# Altium schematic symbol library 155060BS75300.SchLib: 1 symbol
Pins are listed as number, name and electrical type; pins without a type are passive.

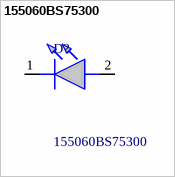
[diagram p0: symbol 155060BS75300]

## 155060BS75300
designator D?
Standard LEDs - SMD WL-SMSW Wtrclr SdVw Blue 3.2V 20mA 465nm; Manufacturer_Name: Wurth Elektronik; Geometry.Height: 1mm; Mouser Part Number: 710-155060BS75300; Mouser Price/Stock: https://www.mouser.co.uk/ProductDetail/Wurth-Elektronik/155060BS75300?qs=GedFDFLaBXFE8klTFAyuFA%3D%3D; Manufacturer_Part_Number: 155060BS75300; Datasheet Link: https://www.mouser.fr/datasheet/2/445/155060BS75300-1838907.pdf
footprint 155060BS75300
pins: 1 K, 2 A